# Altium schematic symbol library integrated_circuits_schematic.SchLib: 128 symbols (part 1 of 5)
Pins are listed as number, name and electrical type; pins without a type are passive.

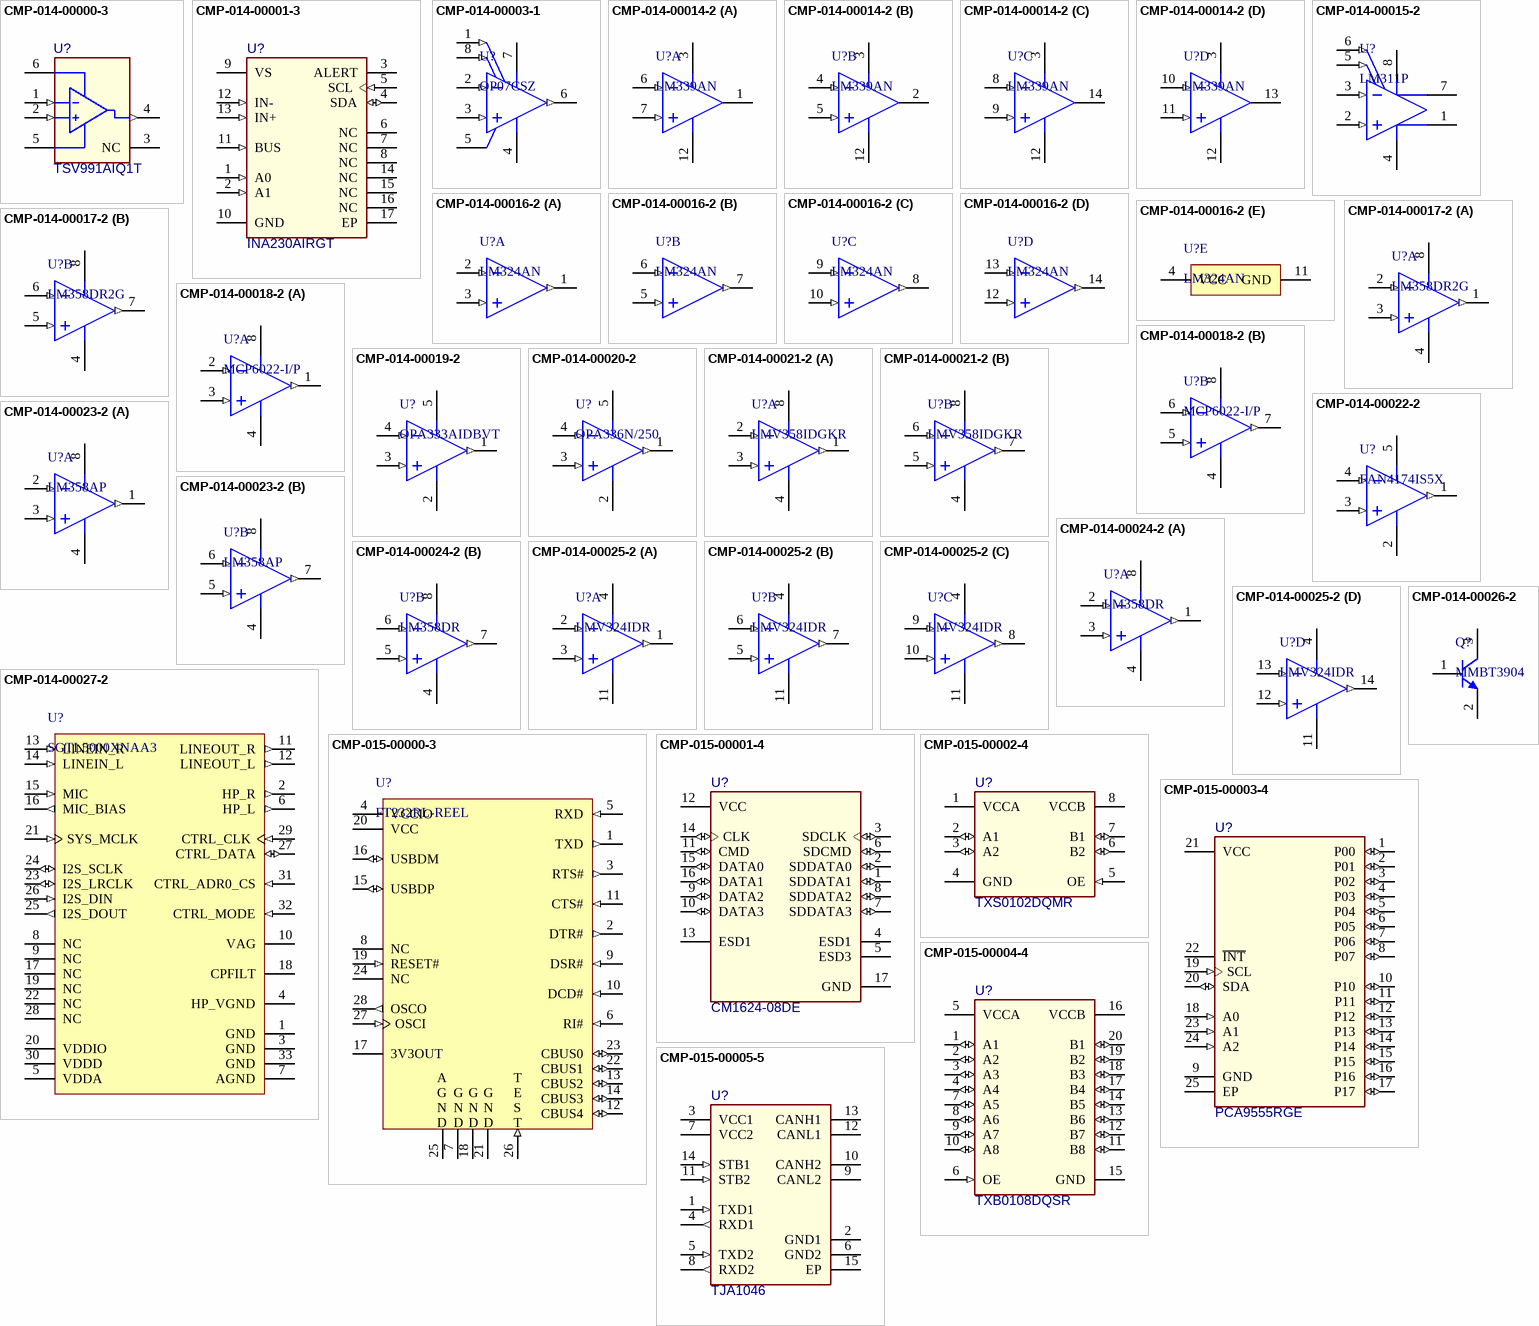
[diagram p0: symbols CMP-014-00000-3 to CMP-015-00005-5]

## CMP-014-00000-3
designator U?, comment TSV991AIQ1T
Rail-to-rail Input / Output GBP Operational Amplifier, 20 MHz, -40 to 125 degC, 6-Pin DFN, RoHS, Tape and Reel; Channels: 2; Min Operating Temperature: -40°C; Pins: 6; Max Operating Temperature: 125°C
footprint STM-DFN-8_V (DFN, 8-Leads, Body 2x2mm, Pitch 0.5mm)
footprint STM-DFN-8_V (DFN, 8-Leads, Body 2x2mm, Pitch 0.5mm)
pins: 1 IN- (in), 2 IN+ (in), 3 NC, 4 OUT (out), 5 VCC- (power), 6 VCC+ (power)

## CMP-014-00001-3
designator U?, comment INA230AIRGT
High or Low Side Measurement, 2.7 to 5.5 V, -40 to 125 degC, 16-Pin QFN, RoHS, Tape and Reel; Mounting Technology: SurfaceMount; Pins: 17
footprint RGT0016C_V (QFN, 16-Leads, Body 3x3mm, Pitch 0.5mm, Thermal Pad 1.65x1.65mm)
footprint RGT0016C_V (QFN, 16-Leads, Body 3x3mm, Pitch 0.5mm, Thermal Pad 1.65x1.65mm)
pins: 1 A0 (in), 2 A1 (in), 3 ALERT (oc), 4 SDA (io), 5 SCL (in), 6 NC, 7 NC, 8 NC, 9 VS (power), 10 GND (power), 11 BUS (in), 12 IN- (in), 13 IN+ (in), 14 NC, 15 NC, 16 NC, 17 EP (power)

## CMP-014-00003-1
designator U?, comment OP07CSZ
Operational Amplifier, 1 Func, 250uV Offset-Max, BIPolar, PDSO8; Nominal Supply Voltage: 15V; Channels: 1; Pins: 8; Case/Package: SOP; RoHS Compliant: Yes; Max Operating Temperature: 85°C; Min Operating Temperature: -40°C
footprint ADI-R-8_N (SOIC, 8-Leads, Body 4.9x3.9mm, Pitch 1.27mm, IPC Medium Density)
footprint ADI-R-8_M (SOIC, 8-Leads, Body 4.9x3.9mm, Pitch 1.27mm, IPC Low Density)
footprint ADI-R-8_L (SOIC, 8-Leads, Body 4.9x3.9mm, Pitch 1.27mm, IPC High Density)
pins: 1 VOS TRIM (in), 2 -IN (in), 3 +IN (in), 4 -V (power), 5 NC, 6 OUT (out), 7 +V (power), 8 VOS TRIM (in)

## CMP-014-00014-2
designator U?, comment LM339AN
Quad Differential Comparator, 2 to 30 V, 0 to 70 degC, 14-Pin DIP (N), Pb-Free (RoHS), Tube; Manufacturer: Texas Instruments (TI); Min Supply Voltage: 2V; Nominal Supply Current: 500uA; Elements: 4; Power: 1.05W; Nominal Voltage Gain: 106.02dB; Max Dual Supply Voltage: 15V; Max Supply Voltage: 30V; Min Dual Supply Voltage: 1V; Datasheet Version: SLCS006S, 08/2012; Pins: 14; Datasheet URL: http://www.ti.com/general/docs/lit/getliterature.tsp?genericPartNumber=LM339A&fileType=pdf; Package Description: 14-Pin Double In-line Package, Body 19.305 x 6.35 mm, Pitch 2.54 mm; Packaging: Rail/Tube; Case/Package: PDIP; Mounting Technology: TH; Package Quantity: 25; Manufacturer URL: http://www.ti.com/; Min Operating Temperature: 0°C; Package Reference: N-14; RoHS Compliant: True; Package URL: http://www.ti.com/lit/ml/mpdi002c/mpdi002c.pdf; Max Operating Temperature: 70°C
footprint TI-N0014A (DIP, 14-Leads, Body 19.7x6.6mm, Pitch 2.54mm)
pins on every part: 3 VCC (power), 12 GND (power)
part A pins: 1 OUT1 (oc), 6 IN1- (in), 7 IN1+ (in)
part B pins: 2 OUT2 (oc), 4 IN2- (in), 5 IN2+ (in)
part C pins: 8 IN3- (in), 9 IN3+ (in), 14 OUT3 (oc)
part D pins: 10 IN4- (in), 11 IN4+ (in), 13 OUT4 (oc)

## CMP-014-00015-2
designator U?, comment LM311P
Quad Differential Comparator, 3.5 to 30 V, 0 to 70 degC, 8-Pin PDIP (P), Pb-Free (RoHS), Tube; Manufacturer: Texas Instruments (TI); Nominal Dual Supply Voltage: 12V; Channels: 1; Nominal Voltage Gain: 106.02dB; Propagation Delay: 115ns; Max Dual Supply Voltage: 15V; Min Dual Supply Voltage: 1.75V; Min Supply Voltage: 3.5V; Max Supply Voltage: 30V; Nominal Supply Current: 7.5mA; Package Version: 4040082/E, 04/2010; Mounting Technology: TH; RoHS Compliant: True; Pins: 8; Datasheet URL: http://www.ti.com/general/docs/lit/getliterature.tsp?genericPartNumber=LM311&fileType=pdf; Packaging: Rail/Tube; Package Quantity: 50; Max Operating Temperature: 70°C; Package Description: 8-Pin Double In-line Package, Body 9.59 x 6.35 mm, Pitch 2.54 mm; Nominal Supply Voltage: 12V; Datasheet Version: SLCS007I, 06/2015; Manufacturer URL: http://www.ti.com/; Package URL: http://www.ti.com/lit/ml/mpdi001b/mpdi001b.pdf; Package Reference: P0008A; Elements: 1; Min Operating Temperature: 0°C; Case/Package: PDIP
footprint P0008A (DIP, 8-Leads, Body 10.15x6.6mm, Pitch 2.54mm)
pins: 1 EMIT OUT, 2 IN+ (in), 3 IN- (in), 4 VCC- (power), 5 BALANCE (in), 6 BAL/STRB (in), 7 COL OUT, 8 VCC+ (power)

## CMP-014-00016-2
designator U?, comment LM324AN
Quadruple Operational Amplifier, 1.2 MHz, 0 to 70 degC, 14-Pin PDIP (N), Pb-Free (RoHS), Tube; Manufacturer: Texas Instruments (TI); Max Dual Supply Voltage: 16V; Nominal Dual Supply Voltage: 12V; Nominal Voltage Gain: 100dB; Min Supply Voltage: 1.5V; Unity Gain Bandwidth Product: 1.2MHz; Output Current: 30mA; Nominal Supply Current: 3mA; RoHS Compliant: True; Package Reference: N-14; Min Operating Temperature: 0°C; Case/Package: DIP; Mounting Technology: TH; Package Description: 14-Pin Double In-line Package, Body 19.305 x 6.35 mm, Pitch 2.54 mm; Nominal Supply Voltage: 12V; Package URL: http://www.ti.com/lit/ml/mpdi002c/mpdi002c.pdf; Package Quantity: 25; Datasheet Version: SLOS066W, 03/2015; Manufacturer URL: http://www.ti.com/; Datasheet URL: http://www.ti.com/lit/ds/symlink/lm324a.pdf; Min Dual Supply Voltage: 1.5V; Max Supply Voltage: 16V; Pins: 14; Max Operating Temperature: 70°C
footprint TI-N0014A (DIP, 14-Leads, Body 19.7x6.6mm, Pitch 2.54mm)
part A pins: 1 1OUT (out) "Output", 2 1IN- (in) "Negative input", 3 1IN+ (in) "Positive input"
part B pins: 5 2IN+ (in) "Positive input", 6 2IN- (in) "Negative input", 7 2OUT (out) "Output"
part C pins: 8 3OUT (out) "Output", 9 3IN- (in) "Negative input", 10 3IN+ (in) "Positive input"
part D pins: 12 4IN+ (in) "Positive input", 13 4IN- (in) "Negative input", 14 4OUT (out) "Output"
part E pins: 4 VCC (power) "Power supply", 11 GND (power) "Ground"

## CMP-014-00017-2
designator U?, comment LM358DR2G
Single Supply Dual Operational Amplifier, 3 to 32 V, 0 to 70 degC, 8-Pin SOIC, Pb-Free, Tape and Reel; Manufacturer: ON Semiconductor; Max Supply Voltage: 44V; Max Input Voltage: 28.3V; Nominal Voltage Gain: 100dB; Slew Rate: 0.07V/us; Common Mode Rejection Ratio: 65dB; Nominal Supply Voltage: 12V; Min Supply Voltage: 2.3V; Channels: 2; Max Dual Supply Voltage: 16V; Nominal Supply Current: 35uA; Output Current: 40mA; Min Dual Supply Voltage: 1.5V; Nominal Gain Bandwith Product: 200KHz; Min Input Voltage: 0uV; Package Reference: SOIC-8-751-07; Package Description: 8-Pin Small Outline Integrated Circuit, Body 4.9 x 3.9 mm, Pitch 1.27 mm; Min Operating Temperature: 0°C; Max Operating Temperature: 70°C; Case/Package: SOIC; Datasheet URL: http://www.onsemi.cn/pub_link/Collateral/LM358-D.PDF; Manufacturer URL: http://www.onsemi.com/; Packaging: TapeandReel; Pins: 8; RoHS Compliant: True; Datasheet Version: Rev. 32, 10/2016; Package Quantity: 2500; Nominal Dual Supply Voltage: 12V; Mounting Technology: SM
footprint ONSC-SOIC-8-751-07_V (SOIC, 8-Leads, Body 4.9x3.9mm, Pitch 1.27mm)
pins on every part: 4 VEE/GND (power), 8 VCC (power)
part A pins: 1 OUTA (out), 2 INA- (in), 3 INA+ (in)
part B pins: 5 INB+ (in), 6 INB- (in), 7 OUTB (out)

## CMP-014-00018-2
designator U?, comment MCP6022-I/P
Rail-to-Rail Input/Output, 10 MHz Op Amp, 7 V/us, 1 mA, 2.5 to 5.5 V, -40 to 85 degC, 8-Pin PDIP (P), RoHS, Tube; Manufacturer: Microchip Technology; Nominal Supply Current: 1mA; Max Ouput Current: 30mA; Min Supply Voltage: 3V; Unity Gain Bandwidth Product: 10MHz; Nominal Voltage Gain: 110dB; Common Mode Rejection Ratio: 70dB; Min Input Voltage: -300mV; Channels: 2; Max Input Voltage: 5.8V; Output Current: 22mA; Max Supply Voltage: 5V; Slew Rate: 7V/us; RoHS Compliant: True; Package Quantity: 60; Max Operating Temperature: 85°C; Case/Package: PDIP; Datasheet URL: http://ww1.microchip.com/downloads/en/DeviceDoc/20001685E.pdf; Mounting Technology: TH; Min Operating Temperature: -40°C; Manufacturer URL: http://www.microchip.com/; Datasheet Version: Rev. E, 01/2017; Packaging: Rail/Tube; Package Description: 8-Pin Double In-line Package, Body 9.46 x 6.35 mm, Pitch 2.54 mm; Package URL: http://www.microchip.com/stellent/groups/techpub_sg/documents/packagingspec/en012702.pdf; Package Reference: P-8; Nominal Gain Bandwith Product: 10MHz; Pins: 8
footprint MCHP-P-8 (DIP, 8-Leads, Body 9.8x6.6mm, Pitch 2.54mm)
pins on every part: 4 VSS (power), 8 VDD (power)
part A pins: 1 VOUTA (out), 2 VINA- (in), 3 VINA+ (in)
part B pins: 5 VINB+ (in), 6 VINB- (in), 7 VOUTB (out)

## CMP-014-00019-2
designator U?, comment OPA333AIDBVT
MicroPower, Zero Drift CMOS Operational Amplifier, 1.8 to 5.5 V, 17 uA, -40 to 125 degC, 5-Pin SOT23 (DBV5), Green (RoHS & no Sb/Br), Tape and Reel; Manufacturer: Texas Instruments (TI); Min Supply Voltage: 900mV; Unity Gain Bandwidth Product: 350KHz; Slew Rate: 0.16V/us; Max Dual Supply Voltage: 2.75V; Nominal Voltage Gain: 130dB; Channels: 1; Common Mode Rejection Ratio: 106dB; Output Current: 5mA; Nominal Supply Current: 25uA; Max I/O Voltage: 10uV; Datasheet URL: http://www.ti.com/general/docs/lit/getliterature.tsp?genericPartNumber=OPA333&fileType=pdf; Manufacturer URL: http://www.ti.com/; Min Dual Supply Voltage: 900mV; Case/Package: SOT-23-5; Packaging: TapeandReel; RoHS Compliant: True; Package URL: http://www.ti.com/lit/ml/mpds018l/mpds018l.pdf; Package Quantity: 250; Mounting Technology: SM; Package Reference: DBV0005A; Nominal Gain Bandwith Product: 350KHz; Max Operating Temperature: 125°C; Pins: 5; Max Supply Voltage: 2.75V; Package Description: 5-Pin Small Outline Transistor, Body 2.9 x 1.6 mm, Pitch 0.95 mm; Datasheet Version: SBOS351E, 12/2015; Min Operating Temperature: -40°C
footprint DBV0005A_L (SOT23, 5-Leads, Body 3.05x1.75mm, Pitch 0.95mm, IPC High Density)
footprint DBV0005A_M (SOT23, 5-Leads, Body 3.05x1.75mm, Pitch 0.95mm, IPC Low Density)
footprint DBV0005A_N (SOT23, 5-Leads, Body 3.05x1.75mm, Pitch 0.95mm, IPC Medium Density)
pins: 1 OUT (out) "Output", 2 V- (power) "Negative (lowest) power supply", 3 +IN (in) "Noninverting input", 4 -IN (in) "Inverting input", 5 V+ (power) "Positive (highest) power supply"

## CMP-014-00020-2
designator U?, comment OPA336N/250
Single-Supply, MicroPower CMOS Operational Amplifier, 2.3 to 5.5 V, -55 to 125 degC, 5-Pin SOT23 (DBV5), Green (RoHS & no Sb/Br), Tape and Reel; Manufacturer: Texas Instruments (TI); Max Supply Voltage: 5V; Unity Gain Bandwidth Product: 100KHz; Slew Rate: 0.03V/us; Nominal Gain Bandwith Product: 11MHz; Common Mode Rejection Ratio: 80dB; Channels: 1; Max I/O Voltage: 125uV; Min Supply Voltage: 3V; Nominal Voltage Gain: 115dB; Nominal Supply Current: 32uA; Package Quantity: 250; Package Reference: DBV0005A; Datasheet URL: http://www.ti.com/general/docs/lit/getliterature.tsp?genericPartNumber=OPA336&fileType=pdf; Package Description: 5-Pin Small Outline Transistor, Body 2.9 x 1.6 mm, Pitch 0.95 mm; Datasheet Version: SBOS068C, 01/2005; Min Operating Temperature: -40°C; Package URL: http://www.ti.com/lit/ml/mpds018l/mpds018l.pdf; RoHS Compliant: True; Case/Package: SOT-23-5; Mounting Technology: SM; Pins: 5; Max Operating Temperature: 85°C; Packaging: TapeandReel; Manufacturer URL: http://www.ti.com/
footprint DBV0005A_L (SOT23, 5-Leads, Body 3.05x1.75mm, Pitch 0.95mm, IPC High Density)
footprint DBV0005A_M (SOT23, 5-Leads, Body 3.05x1.75mm, Pitch 0.95mm, IPC Low Density)
footprint DBV0005A_N (SOT23, 5-Leads, Body 3.05x1.75mm, Pitch 0.95mm, IPC Medium Density)
pins: 1 OUT (out), 2 V- (power), 3 IN+ (in), 4 IN- (in), 5 V+ (power)

## CMP-014-00021-2
designator U?, comment LMV358IDGKR
Low-Voltage Rail-to-Rail Output Operational Amplifier, 2.7 to 5.5 V, -40 to 125 degC, 8-Pin VSSOP (DGK), Green (RoHS & no Sb/Br), Tape and Reel; Manufacturer: Texas Instruments (TI); Max Supply Voltage: 5.5V; Slew Rate: 1V/us; Nominal Voltage Gain: 100dB; Min Supply Voltage: 2.7V; Output Current: 160mA; Channels: 2; Common Mode Rejection Ratio: 50dB; Unity Gain Bandwidth Product: 1MHz; Nominal Supply Current: 440uA; Manufacturer URL: http://www.ti.com/; RoHS Compliant: True; Datasheet URL: http://www.ti.com/lit/ds/symlink/lmv358.pdf; Package URL: http://www.ti.com/litv/pdf/mpds028d; Case/Package: MSOP; Package Reference: DGK0008A; Datasheet Version: SLOS263W, 10/2014; Mounting Technology: SM; Min Operating Temperature: -40°C; Package Quantity: 2500; Package Description: 8-Pin Thin Small Outline Package, Body 3 x 3 mm, Pitch 0.65 mm; Packaging: TapeandReel; Pins: 8; Max Operating Temperature: 85°C; Nominal Gain Bandwith Product: 1MHz
footprint DGK0008A_N (TSOP, 8-Leads, Body 3.1x3.1mm, Pitch 0.65mm, IPC Medium Density)
footprint DGK0008A_M (TSOP, 8-Leads, Body 3.1x3.1mm, Pitch 0.65mm, IPC Low Density)
footprint DGK0008A_L (TSOP, 8-Leads, Body 3.1x3.1mm, Pitch 0.65mm, IPC High Density)
pins on every part: 4 GND (power), 8 VCC+ (power)
part A pins: 1 1OUT (out), 2 1IN- (in), 3 1IN+ (in)
part B pins: 5 2IN+ (in), 6 2IN- (in), 7 2OUT (out)

## CMP-014-00022-2
designator U?, comment FAN4174IS5X
Single, Rail-to-Rail I/O, CMOS Amplifier, 2.3 to 5.25 V, -40 to 125 degC, 5-Pin SOT23, RoHS, Tape and Reel; Manufacturer: Fairchild Semiconductor; Min Supply Voltage: 2.3V; Package Version: Aug-15; Nominal Supply Voltage: 3V; Common Mode Rejection Ratio: 58dB; Channels: 1; Nominal Gain Bandwith Product: 3.7MHz; Nominal Voltage Gain: 102dB; Max Supply Voltage: 5.25V; Slew Rate: 3V/us; Nominal Supply Current: 300uA; Mounting Technology: SM; Max Operating Temperature: 85°C; RoHS Compliant: True; Case/Package: SOT-23-5; Datasheet Version: Rev. 1.0.9, 01/2013; Package URL: https://www.fairchildsemi.com/package-drawings/MA/MA05B.pdf; Packaging: TapeandReel; Datasheet URL: https://www.fairchildsemi.com/datasheets/FA/FAN4174.pdf; Min Operating Temperature: -40°C; Pins: 5; Package Description: 5-Pin Small Outline Transistor, Body 2.9 x 1.6 mm, Pitch 0.95 mm; Package Reference: SOT23-5; Package Quantity: 3000; Manufacturer URL: https://www.fairchildsemi.com/; Unity Gain Bandwidth Product: 3.7MHz
footprint FAIR-SOT23-5_V (SOT23, 5-Leads, Body 3x1.7mm, Pitch 0.95mm)
pins: 1 OUT (out) "Output", 2 -VS (power) "Negative Supply", 3 +IN (in) "Positive Input", 4 -IN (in) "Negative Input", 5 +VS (power) "Positive Supply"

## CMP-014-00023-2
designator U?, comment LM358AP
Dual Operational Amplifier, 3 to 32 V, 0 to 70 degC, 8-Pin PDIP (P), Pb-Free (RoHS), Tube; Manufacturer: Texas Instruments (TI); Channels: 2; Max Dual Supply Voltage: 16V; Min Dual Supply Voltage: 1.5V; Slew Rate: 0.3V/us; Unity Gain Bandwidth Product: 700KHz; Common Mode Rejection Ratio: 65dB; Nominal Supply Voltage: 5V; Package Version: 4040082/E, 04/2010; Output Current: 30mA; Nominal Supply Current: 1.2mA; Nominal Voltage Gain: 100dB; Case/Package: DIP; Max Operating Temperature: 70°C; RoHS Compliant: True; Manufacturer URL: http://www.ti.com/; Pins: 8; Package Description: 8-Pin Double In-line Package, Body 9.59 x 6.35 mm, Pitch 2.54 mm; Datasheet URL: http://www.ti.com/lit/ds/symlink/lm358a.pdf; Max Supply Voltage: 16V; Package Reference: P0008A; Mounting Technology: TH; Min Operating Temperature: 0°C; Package URL: http://www.ti.com/lit/ml/mpdi001b/mpdi001b.pdf; Min Supply Voltage: 1.5V; Package Quantity: 50; Packaging: Rail/Tube; Datasheet Version: SLOS068T, 04/2015; Nominal Gain Bandwith Product: 700KHz
footprint P0008A (DIP, 8-Leads, Body 10.15x6.6mm, Pitch 2.54mm)
pins on every part: 4 GND (power), 8 VCC (power)
part A pins: 1 1OUT (out), 2 1IN- (in), 3 1IN+ (in)
part B pins: 5 2IN+ (in), 6 2IN- (in), 7 2OUT (out)

## CMP-014-00024-2
designator U?, comment LM358DR
Dual Operational Amplifier, 3 to 32 V, 0 to 70 degC, 8-Pin SOIC (D), Green (RoHS & no Sb/Br), Tape and Reel; Manufacturer: Texas Instruments (TI); Channels: 2; Min Supply Voltage: 1.5V; Max Supply Voltage: 16V; Package Version: 4040047-3/M, 06/2011; Common Mode Rejection Ratio: 65dB; Nominal Dual Supply Voltage: 12V; Output Current: 30mA; Slew Rate: 0.3V/us; Unity Gain Bandwidth Product: 700KHz; Nominal Supply Current: 1.2mA; Nominal Voltage Gain: 100dB; Packaging: CutTape; Manufacturer URL: http://www.ti.com/; RoHS Compliant: True; Datasheet Version: SLOS068T, 04/2015; Min Dual Supply Voltage: 1.5V; Max Operating Temperature: 70°C; Package Description: 8-Pin Small Outline Integrated Circuit, Body 4.9 x 3.9 mm, Pitch 1.27 mm; Package Reference: D0008A; Max Dual Supply Voltage: 16V; Nominal Supply Voltage: 12V; Mounting Technology: SM; Datasheet URL: http://www.ti.com/lit/ds/symlink/lm358.pdf; Case/Package: SOIC; Package URL: http://www.ti.com/lit/ml/msoi002j/msoi002j.pdf; Min Operating Temperature: 0°C; Pins: 8; Package Quantity: 1; Nominal Gain Bandwith Product: 700KHz
footprint D0008A_L (SOIC, 8-Leads, Body 5x4mm, Pitch 1.27mm, IPC High Density)
pins on every part: 4 GND (power), 8 VCC (power)
part A pins: 1 1OUT (out), 2 1IN- (in), 3 1IN+ (in)
part B pins: 5 2IN+ (in), 6 2IN- (in), 7 2OUT (out)

## CMP-014-00025-2
designator U?, comment LMV324IDR
Quad Low-Voltage Rail-to-Rail Output Operational Amplifier, 2.7 to 5.5 V, -40 to 125 degC, 14-Pin SOIC (D), Green (RoHS & no Sb/Br), Tape and Reel; Manufacturer: Texas Instruments (TI); Unity Gain Bandwidth Product: 1MHz; Slew Rate: 1V/us; Max Supply Voltage: 5V; Common Mode Rejection Ratio: 50dB; Min Supply Voltage: 3V; Nominal Supply Current: 170uA; Channels: 4; Output Current: 160mA; Nominal Voltage Gain: 100dB; Package Quantity: 2500; Package Description: 14-Pin Small Outline Integrated Circuit, Body 8.65 x 3.9 mm, Pitch 1.27 mm; Packaging: TapeandReel; Max Operating Temperature: 85°C; Nominal Gain Bandwith Product: 1MHz; Package URL: http://www.ti.com/lit/ml/mpds177g/mpds177g.pdf; Min Operating Temperature: -40°C; Package Reference: D0014A; RoHS Compliant: True; Datasheet URL: http://www.ti.com/lit/ds/symlink/lmv324.pdf; Mounting Technology: SM; Datasheet Version: SLOS263W, 10/2014; Manufacturer URL: http://www.ti.com/; Case/Package: SOIC; Pins: 14
footprint D0014A_V (SOIC, 14-Leads, Body 8.75x4mm, Pitch 1.27mm)
pins on every part: 4 VCC+ (power), 11 GND (power)
part A pins: 1 1OUT (out), 2 1IN- (in), 3 1IN+ (in)
part B pins: 5 2IN+ (in), 6 2IN- (in), 7 2OUT (out)
part C pins: 8 3OUT (out), 9 3IN- (in), 10 3IN+ (in)
part D pins: 12 4IN+ (in), 13 4IN- (in), 14 4OUT (out)

## CMP-014-00026-2
designator Q?, comment MMBT3904
NPN General Purpose Amplifier, 40 V, 0.2 A, -55 to 150 degC, 3-Pin SOT23, RoHS, Tape and Reel; Manufacturer: Fairchild Semiconductor; Package Version: Rev. 12, 03/2016; Elements: 1; Power: 625mW; hFE Min: 100; Vce Max: 300mV; Frequency: 300MHz; Pins: 3; Package Description: 3-Pin Small Outline Transistor, Body 2.92 x 1.325 mm, Pitch 0.95 mm; RoHS Compliant: True; Package Quantity: 3000; Manufacturer URL: https://www.fairchildsemi.com/; Packaging: TapeandReel; Min Operating Temperature: -55°C; Max Operating Temperature: 150°C; Mounting Technology: SM; Case/Package: TO-236-3; Package Reference: SOT23-3; Datasheet Version: Rev. 1.1.0, 10/2014; Datasheet URL: https://www.fairchildsemi.com/datasheets/MM/MMBT3904.pdf; Package URL: http://www.fairchildsemi.com/dwg/MA/MA03D.pdf
footprint FAIR-SOT23-3_V (SOT23, 3-Leads, Body 3.12x1.5mm, Pitch 0.95mm)
pins: 1 B, 2 E, 3 C

## CMP-014-00027-2
designator U?, comment SGTL5000XNAA3
Low Power Stereo Codec with Headphone Amp, 1.1 to 2 V, -40 to 85 degC, 32-Pin QFN-EP, RoHS, Tray; Manufacturer: NXP / Freescale; Max Supply Voltage: 3.6V; Channels: 2; Min Supply Voltage: 2V; Pins: 32; Min Operating Temperature: -40°C; Case/Package: QFN; Package Quantity: 2450; Datasheet URL: http://cache.freescale.com/files/analog/doc/data_sheet/SGTL5000.pdf?pspll=1&Parent_nodeId=1227651963351723867067&Parent_pageType=product; RoHS Compliant: True; Datasheet Version: Rev. 6.0, 11/2013; Packaging: Tray; Max Operating Temperature: 85°C
footprint FRES-QFN-EP-32_M (QFN, 32-Leads, Body 5.00x5.00mm, Pitch 0.50mm, Thermal Pad 3.40x3.40mm, IPC Low Density)
footprint FRES-QFN-EP-32_L (QFN, 32-Leads, Body 5.00x5.00mm, Pitch 0.50mm, Thermal Pad 3.40x3.40mm, IPC High Density)
footprint FRES-QFN-EP-32_N (QFN, 32-Leads, Body 5.00x5.00mm, Pitch 0.50mm, Thermal Pad 3.40x3.40mm, IPC Medium Density)
pins: 1 GND (power) "Ground", 2 HP_R (out) "Right headphone output", 3 GND (power) "Ground", 4 HP_VGND (power) "Headphone virtual ground", 5 VDDA (power) "Analog voltage", 6 HP_L (out) "Left headphone output", 7 AGND (power) "Ground", 8 NC "No Connect", 9 NC "No Connect", 10 VAG "DAC VAG filter", 11 LINEOUT_R (out) "Right LINEOUT", 12 LINEOUT_L (out) "Left LINEOUT", 13 LINEIN_R (in) "Right LINEIN", 14 LINEIN_L (in) "Left LINEIN", 15 MIC (in) "Microphone input", 16 MIC_BIAS (out) "Mic bias", 17 NC "No Connect", 18 CPFILT "Charge Pump Filter", 19 NC "No Connect", 20 VDDIO (power) "Digital I/O voltage", 21 SYS_MCLK (in) "System master clock", 22 NC "No Connect", 23 I2S_LRCLK (io) "I2S frame clock", 24 I2S_SCLK (io) "I2S bit clock", 25 I2S_DOUT (out) "I2S data output", 26 I2S_DIN (in) "I2S data input", 27 CTRL_DATA (io) "I2C Mode: Serial Data (SDA); SPI Mode: Serial Data Input (MOSI)", 28 NC "No Connect", 29 CTRL_CLK (in) "I2C Mode: Serial Clock (SCL); SPI Mode: Serial Clock (SCK)", 30 VDDD (power) "Digital voltage", 31 CTRL_ADR0_CS (in) "I2C Mode: I2C Address Select 0; SPI Mode: SPI Chip Select", 32 CTRL_MODE (in) "Mode select for I2C or SPI; When pulled low the control mode is I2C, when pulled high the control mode is SPI", 33 GND (power) "Ground"

## CMP-015-00000-3
designator U?, comment FT232RL-REEL
USB UART IC, -0.5 to 6 V, 24 mA, -40 to 85 degC, 28-Pin SSOP, RoHS, Tape and Reel; Manufacturer: Future Technology Devices International (FTDI); Max Supply Voltage: 5.25V; Nominal Supply Voltage: 5V; Min Supply Voltage: 3.3V; Data Rate: 3Mbps; Channels: 1; Packaging: TapeandReel; Manufacturer URL: http://www.ftdichip.com/; Package Quantity: 2000; RoHS Compliant: True; Interface: UART; Pins: 16; Datasheet Version: Rev. 1.04, 02/2006; Locally Supplier URL: https://www.thegioiic.com/ft232rl-ic-usb-to-serial-uart-28-ssop; Datasheet URL: http://datasheet.octopart.com/FT232RL-FTDI-datasheet-120501.pdf; Case/Package: SSOP; Min Operating Temperature: -40°C; Max Operating Temperature: 85°C; Locally Supplier Name: Thegioiic
footprint FTDI-SSOP-28_M (SOP, 28-Leads, Body 10.5x5.6mm, Pitch 0.65mm, IPC Low Density)
footprint FTDI-SSOP-28_L (SOP, 28-Leads, Body 10.5x5.6mm, Pitch 0.65mm, IPC High Density)
footprint FTDI-SSOP-28_N (SOP, 28-Leads, Body 10.5x5.6mm, Pitch 0.65mm, IPC Medium Density)
pins: 1 TXD (out) "Transmit Asynchronous Data Output", 2 DTR# (out) "Data Terminal Ready Control Output / Handshake signal", 3 RTS# (out) "Request To Send Control Output / Handshake signal", 4 VCCIO (power) "+1.8V to +5.25V supply to the UART Interface and CBUS group pins", 5 RXD (in) "Receive Asynchronous Data Input", 6 RI# (in) "Ring Indicator Control Input. When remote wake up is enabled in the internal EEPROM taking RI# low can be used to resume the PC USB host controller from suspend.", 7 GND (power) "Device ground supply pins", 8 NC "No internal connection", 9 DSR# (in) "Data Set Ready Control Input / Handshake signal", 10 DCD# (in) "Data Carrier Detect Control input", 11 CTS# (in) "Clear to Send Control input / Handshake signal", 12 CBUS4 (io) "Con?gurable CBUS I/O Pin. Function of this pin is con?gured in the device internal EEPROM", 13 CBUS2 (io) "Con?gurable CBUS I/O Pin. Function of this pin is con?gured in the device internal EEPROM", 14 CBUS3 (io) "Con?gurable CBUS I/O Pin. Function of this pin is con?gured in the device internal EEPROM", 15 USBDP (io) "USB Data Signal Plus, incorporating internal series resistor and 1.5k ohm pull up resistor to 3.3V", 16 USBDM (io) "USB Data Signal Minus, incorporating internal series resistor", 17 3V3OUT (power) "3.3V output from integrated L.D.O. regulator", 18 GND (power) "Device ground supply pins", 19 RESET# (in) "Can be used by an external device to reset the FT232R", 20 VCC (power) "3.3V to 5.25V supply to the device core", 21 GND (power) "Device ground supply pins", 22 CBUS1 (io) "Con?gurable CBUS I/O Pin. Function of this pin is con?gured in the device internal EEPROM", 23 CBUS0 (io) "Con?gurable CBUS I/O Pin. Function of this pin is con?gured in the device internal EEPROM", 24 NC "No internal connection", 25 AGND (power) "Device analog ground supply for internal clock multiplier", 26 TEST (in) "Puts the device into I.C. test mode. Must be tied to GND for normal operation", 27 OSCI (in) "Input to 12MHz Oscillator Cell. Optional - Can be left unconnected for normal operation", 28 OSCO (out) "Output from 12MHz Oscillator Cell. Optional - Can be left unconnected for normal operation if internal oscillator is used"
text: A / G / N / D; G / N / D; T / E / S / T

## CMP-015-00001-4
designator U?, comment CM1624-08DE
EMI Filter for T-Flash / MicroSD Interface, -40 to 85 degC, 16-Pin UDFN, Pb-Free, Tape and Reel; ComponentLink3URL: http://www.onsemi.com/pub_link/Collateral/517BE.PDF; ComponentLink1Description: Manufacturer URL; ComponentLink1URL: http://www.onsemi.com/; ComponentLink3Description: Package Specification; RoHS Compliant: Pb-Free; ComponentLink2URL: http://www.onsemi.com/pub_link/Collateral/CM1624-D.PDF; Pins: 17; ComponentLink2Description: Datasheet; Mounting Technology: Surface Mount
footprint ONSC-UDFN-16-517BE-01_V (SON, 16-Leads, Body 3.3x1.35mm, Pitch 0.4mm, Thermal Pad 3x0.5mm)
footprint ONSC-UDFN-16-517BE-01_V (SON, 16-Leads, Body 3.3x1.35mm, Pitch 0.4mm, Thermal Pad 3x0.5mm)
pins: 1 SDDATA1 (io) "Data line #1 input/output with pull-up resistor", 2 SDDATA0 (io) "Data line #0 input/output with pull-up resistor", 3 SDCLK (io) "Clock line Input/Output", 4 ESD1 "Single ESD", 5 ESD3 "Single ESD", 6 SDCMD (io) "Command Line Input/Output", 7 SDDATA3 (io) "Data line #3 input/output with pull-up resistor", 8 SDDATA2 (io) "Data line #2 input/output with pull-up resistor", 9 DATA2 (io) "Data line #2 input/output with pull-up resistor", 10 DATA3 (io) "Data line #3 input/output with pull-up resistor", 11 CMD (io) "Command Line Input/Output", 12 VCC (power) "Power Supply ESD Protection", 13 ESD1 "Single ESD", 14 CLK (io) "Clock line Input/Output", 15 DATA0 (io) "Data line #0 input/output with pull-up resistor", 16 DATA1 (io) "Data line #1 input/output with pull-up resistor", 17 GND (power) "Ground return to shield"

## CMP-015-00002-4
designator U?, comment TXS0102DQMR
IC TRANSLATOR VOLTAGE 8-X2SON; Min Supply Voltage: 1.65V; Max Supply Voltage: 5.5V; Pins: 8; Min Operating Temperature: -40°C; Max Operating Temperature: 85°C
footprint DQM (R-PX2SON-N8)
footprint DQM (R-PX2SON-N8)
pins: 1 VCCA (power), 2 A1 (io), 3 A2 (io), 4 GND (power), 5 OE (in), 6 B2 (io), 7 B1 (io), 8 VCCB (power)

## CMP-015-00003-4
designator U?, comment PCA9555RGE
Remote 16-Bit I2C and SMBus I/O Expander with Interrupt Output and Configuration Registers, 2.3 to 5.5 V, -40 to 85 degC, 24-pin VQFN (RGE), Green (RoHS & no Sb/Br); ComponentLink1URL: http://www.ti.com/general/docs/lit/getliterature.tsp?genericPartNumber=PCA9555&fileType=pdf; ComponentLink2URL: http://www.ti.com/litv/pdf/mpds211a; ComponentLink1Description: Datasheet; Mounting Technology: Surface Mount; ComponentLink2Description: Package Specification; Pins: 25
footprint RGE0024C (QFN, 24-Leads, Body 4x4mm, Pitch 0.5mm, Thermal Pad 2.1x2.1mm)
footprint RGE0024C (QFN, 24-Leads, Body 4x4mm, Pitch 0.5mm, Thermal Pad 2.1x2.1mm)
pins: 1 P00 (io) "P-port input/output. Push-pull design structure.", 2 P01 (io) "P-port input/output. Push-pull design structure.", 3 P02 (io) "P-port input/output. Push-pull design structure.", 4 P03 (io) "P-port input/output. Push-pull design structure.", 5 P04 (io) "P-port input/output. Push-pull design structure.", 6 P05 (io) "P-port input/output. Push-pull design structure.", 7 P06 (io) "P-port input/output. Push-pull design structure.", 8 P07 (io) "P-port input/output. Push-pull design structure.", 9 GND (power) "Ground", 10 P10 (io) "P-port input/output. Push-pull design structure.", 11 P11 (io) "P-port input/output. Push-pull design structure.", 12 P12 (io) "P-port input/output. Push-pull design structure.", 13 P13 (io) "P-port input/output. Push-pull design structure.", 14 P14 (io) "P-port input/output. Push-pull design structure.", 15 P15 (io) "P-port input/output. Push-pull design structure.", 16 P16 (io) "P-port input/output. Push-pull design structure.", 17 P17 (io) "P-port input/output. Push-pull design structure.", 18 A0 (in) "Address input 0. Connect directly to VCC or ground.", 19 SCL (in) "Serial clock bus. Connect to VCC through a pullup resistor.", 20 SDA (io) "Serial data bus. Connect to VCC through a pullup resistor.", 21 VCC (power) "Supply voltage", 22 ~{INT} (oc) "Interrupt output. Connect to VCC through a pullup resistor.", 23 A1 (in) "Address input 1. Connect directly to VCC or ground.", 24 A2 (in) "Address input 2. Connect directly to VCC or ground.", 25 EP "Exposed thermal pad"

## CMP-015-00004-4
designator U?, comment TXB0108DQSR
Bidirectional Voltage-Level Translator with Auto-Direction Sensing and +/-15 KV ESD Protection, 8 Bit, -40 to 85 degC, 20-Pin USON (DQS), Green (RoHS & no Sb/Br), Tape and Reel; Pins: 20
footprint DQS0020A_V (SON, 20-Leads, Body 4x2mm, Pitch 0.4mm)
footprint DQS0020A_V (SON, 20-Leads, Body 4x2mm, Pitch 0.4mm)
pins: 1 A1 (io), 2 A2 (io), 3 A3 (io), 4 A4 (io), 5 VCCA (power), 6 OE (in), 7 A5 (io), 8 A6 (io), 9 A7 (io), 10 A8 (io), 11 B8 (io), 12 B7 (io), 13 B6 (io), 14 B5 (io), 15 GND (power), 16 VCCB (power), 17 B4 (io), 18 B3 (io), 19 B2 (io), 20 B1 (io)

## CMP-015-00005-5
designator U?, comment TJA1046
Dual High-speed CAN Transceiver with Standby Mode, 4.75 to 5.25 V, 14-Pin HVSON, RoHS, Tape and Reel; Pins: 15
footprint NXP-SOT1086-2_L (SON, 14-Leads, Body 4.6x3.1mm, Pitch 0.65mm, Thermal Pad 4.2x1.59mm, IPC High Density)
footprint NXP-SOT1086-2_L (SON, 14-Leads, Body 4.6x3.1mm, Pitch 0.65mm, Thermal Pad 4.2x1.59mm, IPC High Density)
pins: 1 TXD1 (in) "transmit data input 1", 2 GND1 (power) "transceiver ground 1", 3 VCC1 (power) "transceiver supply voltage 1", 4 RXD1 (out) "receive data output 1; reads out data from the bus lines 1", 5 TXD2 (in) "transmit data input 2", 6 GND2 (power) "transceiver ground 2", 7 VCC2 (power) "transceiver supply voltage 2", 8 RXD2 (out) "receive data output 2; reads out data from the bus lines 2", 9 CANL2 "LOW-level CAN-bus line 2", 10 CANH2 "HIGH-level CAN-bus line 2", 11 STB2 (in) "Standby mode control input 2", 12 CANL1 "LOW-level CAN-bus line 1", 13 CANH1 "HIGH-level CAN-bus line 1", 14 STB1 (in) "Standby mode control input 1", 15 EP (power)

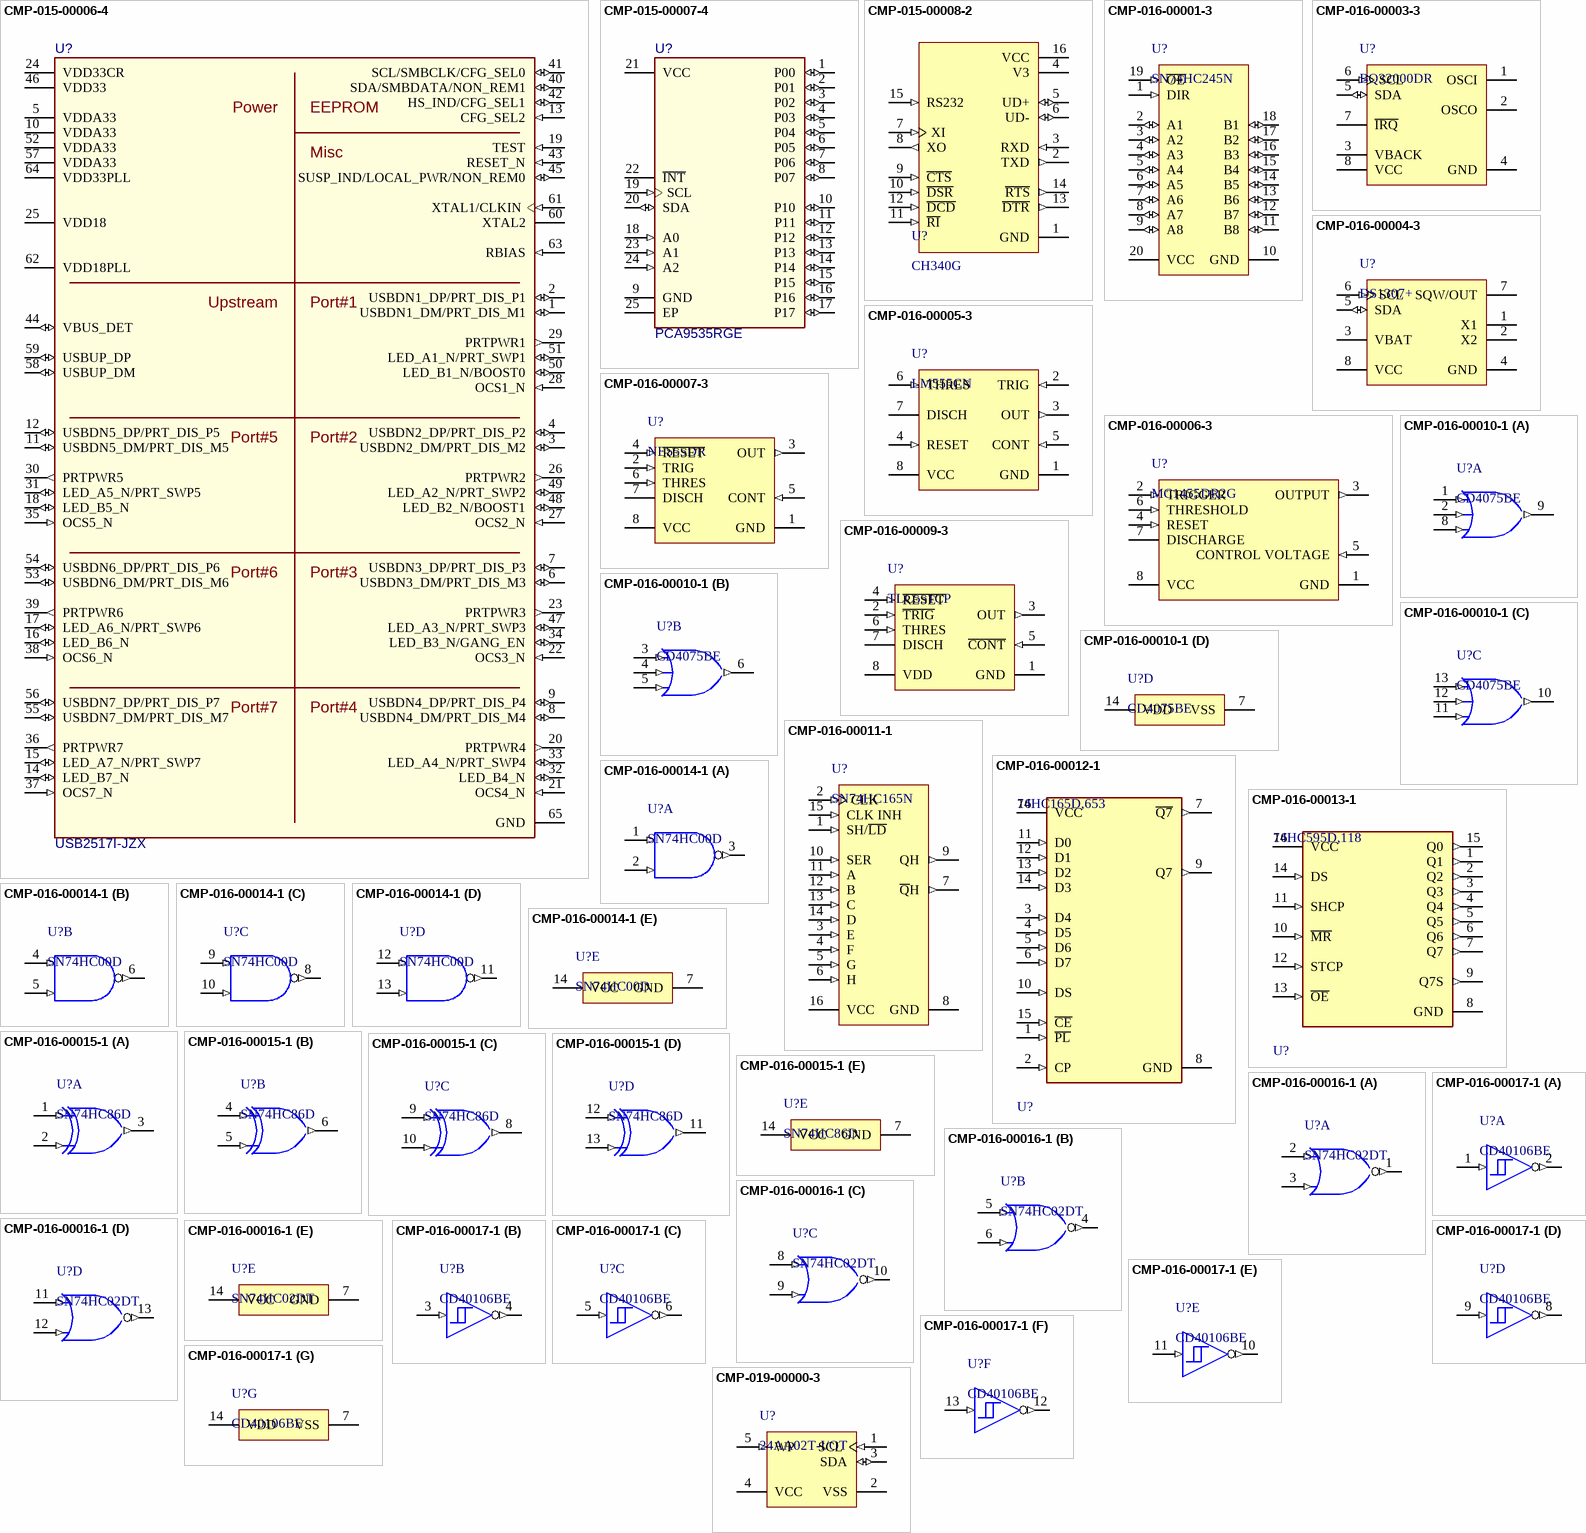
[diagram p1: symbols CMP-015-00006-4 to CMP-019-00000-3]

## CMP-015-00006-4
designator U?, comment USB2517I-JZX
Industrial Temperature Rated USB 2.0 Hi-Speed 7-Port Hub Controller, 3.3 V, -40 to 85 degC, 64-Pin QFN, RoHS, Tube; Case/Package: 64-VFQFNExposedPad; Pins: 65; Mounting Technology: SurfaceMount
footprint MCHP-QFN-64-4700X4700TP (QFN, 64-Leads, Body 9.1x9.1mm, Pitch 0.5mm, Thermal Pad 4.7x4.7mm)
footprint MCHP-QFN-64-4700X4700TP (QFN, 64-Leads, Body 9.1x9.1mm, Pitch 0.5mm, Thermal Pad 4.7x4.7mm)
pins: 1 USBDN1_DM/PRT_DIS_M1 (io), 2 USBDN1_DP/PRT_DIS_P1 (io), 3 USBDN2_DM/PRT_DIS_M2 (io), 4 USBDN2_DP/PRT_DIS_P2 (io), 5 VDDA33 (power) ""VDD Analog I/O.+3.3V Filtered analog PHY power which is shared between", 6 USBDN3_DM/PRT_DIS_M3 (io), 7 USBDN3_DP/PRT_DIS_P3 (io), 8 USBDN4_DM/PRT_DIS_M4 (io), 9 USBDN4_DP/PRT_DIS_P4 (io), 10 VDDA33 (power) ""VDD Analog I/O.+3.3V Filtered analog PHY power which is shared between", 11 USBDN5_DM/PRT_DIS_M5 (io), 12 USBDN5_DP/PRT_DIS_P5 (io), 13 CFG_SEL2 (in) "Configuration Programming Select", 14 LED_B7_N (io) "Enhanced Indicator LED for ports 7", 15 LED_A7_N/PRT_SWP7 (io), 16 LED_B6_N (io) "Enhanced Indicator LED for ports 6", 17 LED_A6_N/PRT_SWP6 (io), 18 LED_B5_N (io) "Enhanced Indicator LED for ports 5", 19 TEST (in) "TEST pin", 20 PRTPWR4 (out) "USB Power Enable", 21 OCS4_N (in) "Over-current Sense", 22 OCS3_N (in) "Over-current Sense", 23 PRTPWR3 (out) "USB Power Enable", 24 VDD33CR (power) ""VDDIO/VDD 3.3 Core Regulator Reference.+3.3V power supply for the Digital I/O. If the internal core", 25 VDD18 (power) ""VDD Core.+1.8V core power. This pin must have a 1.0uF (or greater) +/-20%", 26 PRTPWR2 (out) "USB Power Enable", 27 OCS2_N (in) "Over-current Sense", 28 OCS1_N (in) "Over-current Sense", 29 PRTPWR1 (out) "USB Power Enable", 30 PRTPWR5 (out) "USB Power Enable", 31 LED_A5_N/PRT_SWP5 (io), 32 LED_B4_N (io) "Enhanced Indicator LED for ports 4", 33 LED_A4_N/PRT_SWP4 (io), 34 LED_B3_N/GANG_EN (io), 35 OCS5_N (in) "Over-current Sense", 36 PRTPWR7 (out) "USB Power Enable", 37 OCS7_N (in) "Over-current Sense", 38 OCS6_N (in) "Over-current Sense", 39 PRTPWR6 (out) "USB Power Enable", 40 SDA/SMBDATA/NON_REM1 (io), 41 SCL/SMBCLK/CFG_SEL0 (io), 42 HS_IND/CFG_SEL1 (io), 43 RESET_N (in) "RESET Input", 44 VBUS_DET (io) "Detect Upstream VBUS Power", 45 SUSP_IND/LOCAL_PWR/NON_REM0 (io), 46 VDD33 (power) "VDD I/O.+3.3V Digital I/O power", 47 LED_A3_N/PRT_SWP3 (io), 48 LED_B2_N/BOOST1 (io), 49 LED_A2_N/PRT_SWP2 (io), 50 LED_B1_N/BOOST0 (io), 51 LED_A1_N/PRT_SWP1 (io), 52 VDDA33 (power) ""VDD Analog I/O.+3.3V Filtered analog PHY power which is shared between", 53 USBDN6_DM/PRT_DIS_M6 (io), 54 USBDN6_DP/PRT_DIS_P6 (io), 55 USBDN7_DM/PRT_DIS_M7 (io), 56 USBDN7_DP/PRT_DIS_P7 (io), 57 VDDA33 (power) ""VDD Analog I/O.+3.3V Filtered analog PHY power which is shared between", 58 USBUP_DM (io) "USB Bus Data", 59 USBUP_DP (io) "USB Bus Data", 60 XTAL2 "Crystal Output", 61 XTAL1/CLKIN (in) "Crystal Input/External Clock Input", 62 VDD18PLL (power) ""VDD PLL.+1.8V Filtered analog power for internal PLL. This pin must have", 63 RBIAS (in) "USB Transceiver Bias", 64 VDD33PLL (power) "VDD 3.3 PLL Regulator Reference.+3.3V power supply for the Digital I/O. If the internal PLL 1.8V regulator is enabled, then this pin acts as the regulator input.", 65 GND (power) "Ground"
text: Power; EEPROM; Misc; Upstream; Port#1; Port#5; Port#2; Port#6; Port#3; Port#7; Port#4

## CMP-015-00007-4
designator U?, comment PCA9535RGE
Remote 16-Bit I2C and SMBus I/O Expander with Interrupt Output and Configuration Registers, 2.3 to 5.5 V, -40 to 85 degC, 24-pin VQFN (RGE), Green (RoHS & no Sb/Br); ComponentLink1Description: Datasheet; Mounting Technology: Surface Mount; ComponentLink2Description: Package Specification; ComponentLink2URL: http://www.ti.com/litv/pdf/mpds211a; Pins: 25; ComponentLink1URL: http://www.ti.com/general/docs/lit/getliterature.tsp?genericPartNumber=PCA9535&fileType=pdf
footprint RGE0024C (QFN, 24-Leads, Body 4x4mm, Pitch 0.5mm, Thermal Pad 2.1x2.1mm)
footprint RGE0024C (QFN, 24-Leads, Body 4x4mm, Pitch 0.5mm, Thermal Pad 2.1x2.1mm)
pins: 1 P00 (io) "P-port input/output. Push-pull design structure.", 2 P01 (io) "P-port input/output. Push-pull design structure.", 3 P02 (io) "P-port input/output. Push-pull design structure.", 4 P03 (io) "P-port input/output. Push-pull design structure.", 5 P04 (io) "P-port input/output. Push-pull design structure.", 6 P05 (io) "P-port input/output. Push-pull design structure.", 7 P06 (io) "P-port input/output. Push-pull design structure.", 8 P07 (io) "P-port input/output. Push-pull design structure.", 9 GND (power) "Ground", 10 P10 (io) "P-port input/output. Push-pull design structure.", 11 P11 (io) "P-port input/output. Push-pull design structure.", 12 P12 (io) "P-port input/output. Push-pull design structure.", 13 P13 (io) "P-port input/output. Push-pull design structure.", 14 P14 (io) "P-port input/output. Push-pull design structure.", 15 P15 (io) "P-port input/output. Push-pull design structure.", 16 P16 (io) "P-port input/output. Push-pull design structure.", 17 P17 (io) "P-port input/output. Push-pull design structure.", 18 A0 (in) "Address input 0. Connect directly to VCC or ground.", 19 SCL (in) "Serial clock bus. Connect to VCC through a pullup resistor.", 20 SDA (io) "Serial data bus. Connect to VCC through a pullup resistor.", 21 VCC (power) "Supply voltage", 22 ~{INT} (oc) "Interrupt output. Connect to VCC through a pullup resistor.", 23 A1 (in) "Address input 1. Connect directly to VCC or ground.", 24 A2 (in) "Address input 2. Connect directly to VCC or ground.", 25 EP "Exposed thermal pad"

## CMP-015-00008-2
designator U?, comment CH340G
USB Bridge, USB to UART USB 2.0 UART Interface; Nominal Supply Voltage: 3.3V; Max Supply Voltage: 5V; Mounting Technology: SMT; Locally Supplier URL: https://www.thegioiic.com/ch340g; Pins: 16; Locally Supplier Name: Thegioiic; Case/Package: DSIP-16; Min Supply Voltage: 3.3V
footprint DSIP-16 CH340G
pins: 1 GND (power), 2 TXD (out), 3 RXD (in), 4 V3 (power), 5 UD+ (io), 6 UD- (io), 7 XI (in), 8 XO (out), 9 ~{CTS} (in), 10 ~{DSR} (in), 11 ~{RI} (in), 12 ~{DCD} (in), 13 ~{DTR} (out), 14 ~{RTS} (out), 15 RS232 (in), 16 VCC (power)

## CMP-016-00001-3
designator U?, comment SN74HC245N
Octal Bus Transceiver, 2 to 6 V, -40 to 85 degC, 20-Pin PDIP (N), Pb-Free (RoHS), Tape and Reel; Manufacturer: Texas Instruments; Max Ouput Current: -7.8mA; Output Current: 7.8mA; Min Supply Voltage: 2V; Propagation Delay: 22ns; Elements: 1; Direction: Bidirectional; Channels: 8; Nominal Supply Voltage: 5V; Max Supply Voltage: 6V; Package Description: 20-Pin Double In-line Package, Body 25.4 x 6.35 mm, Pitch 2.54 mm; Mounting Technology: TH; Min Operating Temperature: -40°C; Packaging: Rail/Tube; Case/Package: DIP; Datasheet Version: SCLS131E, 09/2015; Package Quantity: 20; Package URL: http://www.ti.com/lit/ml/mpdi002c/mpdi002c.pdf; Datasheet URL: http://www.ti.com/lit/ds/symlink/sn74hc245.pdf; Max Operating Temperature: 85°C; Manufacturer URL: http://www.ti.com/; Package Reference: N0020A; RoHS Compliant: True; Pins: 20
footprint N0020A (DIP, 20-Leads, Body 26.9x6.6mm, Pitch 2.54mm)
pins: 1 DIR (in) "Direction Pin", 2 A1 (io) "A1 Input/Output", 3 A2 (io) "A2 Input/Output", 4 A3 (io) "A3 Input/Output", 5 A4 (io) "A4 Input/Output", 6 A5 (io) "A5 Input/Output", 7 A6 (io) "A6 Input/Output", 8 A7 (io) "A7 Input/Output", 9 A8 (io) "A8 Input/Output", 10 GND (power) "Ground Pin", 11 B8 (io) "B8 Input/Output", 12 B7 (io) "B7 Input/Output", 13 B6 (io) "B6 Input/Output", 14 B5 (io) "B5 Input/Output", 15 B4 (io) "B4 Input/Output", 16 B3 (io) "B3 Input/Output", 17 B2 (io) "B2 Input/Output", 18 B1 (io) "B1 Input/Output", 19 ~{OE} (in) "Output Enable", 20 VCC (power) "Power Pin"

## CMP-016-00003-3
designator U?, comment BQ32000DR
Real-Time Clock (RTC), 3 to 3.6 V, -40 to 85 degC, 8-Pin SOIC (D), Green (RoHS & no Sb/Br), Tape and Reel; Manufacturer: Texas Instruments; Package Version: 4040047-3/M, 06/2011; Max Supply Voltage: 3.6V; Nominal Supply Voltage: 3.3V; Interface: Serial; Min Supply Voltage: 3V; RoHS Compliant: True; Datasheet Version: SLUS900E, 08/2015; Pins: 8; Mounting Technology: SM; Manufacturer URL: http://www.ti.com/; Package Description: 8-Pin Small Outline Integrated Circuit, Body 4.9 x 3.9 mm, Pitch 1.27 mm; Package Quantity: 2500; Datasheet URL: http://www.ti.com/lit/ds/symlink/bq32000.pdf; Package Reference: D0008A; Package URL: http://www.ti.com/lit/ml/msoi002j/msoi002j.pdf; Case/Package: SOIC; Max Operating Temperature: 85°C; Packaging: TapeandReel; Min Operating Temperature: -40°C
footprint D0008A_N (SOIC, 8-Leads, Body 5x4mm, Pitch 1.27mm, IPC Medium Density)
footprint D0008A_L (SOIC, 8-Leads, Body 5x4mm, Pitch 1.27mm, IPC High Density)
footprint D0008A_M (SOIC, 8-Leads, Body 5x4mm, Pitch 1.27mm, IPC Low Density)
pins: 1 OSCI "Oscillator input", 2 OSCO "Oscillator output", 3 VBACK (power) "Backup device power", 4 GND (power) "Ground", 5 SDA (io) "I2C serial data", 6 SCL (in) "I2C serial interface clock", 7 ~{IRQ} (oc) "Configurable interrupt output. Open-drain output.", 8 VCC (power) "Main device power"

## CMP-016-00004-3
designator U?, comment DS1307+
I2C Real-Time Clock, 5 V, 0 to 70 degC, 8-Pin DIP, RoHS, Tube; Manufacturer: Maxim; Min Supply Voltage: 4.5V; Interface: Serial; Nominal Supply Voltage: 5V; Package Version: Rev. E, 04/2011; Max Supply Voltage: 5.5V; RoHS Compliant: True; Manufacturer URL: http://www.maximintegrated.com/; Datasheet Version: Rev. 100208, 10/2008; Datasheet URL: https://datasheet.ciiva.com/20167/82-0567-20167410.pdf; Mounting Technology: TH; Package Quantity: 50; Packaging: Rail/Tube; Package Description: 8-Pin Plastic Dual-In-Line, Narrow (0.3in) (P8-1), Body 9.375 x 6.985 mm, Pitch 2.54 mm; Case/Package: DIP; Min Operating Temperature: 0°C; Package URL: http://pdfserv.maximintegrated.com/package_dwgs/21-0043.PDF; Pins: 8; Max Operating Temperature: 70°C; Package Reference: P8-1
footprint MAXM-P8-1 (DIP, 8-Leads, Body 9.375x6.985mm, Pitch 2.54mm)
pins: 1 X1 "Connections for Standard 32.768kHz Quartz Crystal.", 2 X2 "Connections for Standard 32.768kHz Quartz Crystal.", 3 VBAT (power) "Backup Supply Input for Any Standard 3V Lithium Cell or Other Energy Source.", 4 GND (power) "Ground", 5 SDA (io) "Serial Data Input/Output.", 6 SCL (in) "Serial Clock Input.", 7 SQW/OUT (oc) "Square Wave/Output Driver.", 8 VCC (power) "Primary Power Supply."

## CMP-016-00005-3
designator U?, comment LM555CN
Single Timer, 4.5 to 16 V, 0 to 70 degC, 8-Pin MDIP, RoHS, Rail; Manufacturer: Fairchild Semiconductor; Max Ouput Current: -200mA; Channels: 1; Max Supply Voltage: 16V; Nominal Supply Voltage: 5V; Nominal Supply Current: 7.5mA; Min Supply Voltage: 4.5V; Power: 600mW; Datasheet Version: Rev. 1.1.0, 01/2013; Case/Package: DIP; Max Operating Temperature: 70°C; RoHS Compliant: True; Min Operating Temperature: 0°C; Manufacturer URL: https://www.fairchildsemi.com/; Package Reference: MDIP 8L; Datasheet URL: https://www.fairchildsemi.com/datasheets/LM/LM555.pdf; Pins: 8; Package URL: https://www.fairchildsemi.com/package-drawings/N0/N08E.pdf; Package Description: 8-Pin Dual Inline Package, Body 9.815 x 6.35 mm, Pitch 2.54 mm; Package Quantity: 50; Packaging: Rail/Tube; Mounting Technology: TH
footprint FAIR-MDIP 8L (DIP, 8-Leads, Body 9.4x6.6mm, Pitch 2.54mm)
pins: 1 GND (power), 2 TRIG (in), 3 OUT (out), 4 RESET (in), 5 CONT (in), 6 THRES (in), 7 DISCH (oc), 8 VCC (power)

## CMP-016-00006-3
designator U?, comment MC1455DR2G
Timer, 4.5 to 16 V, 625 mW, 0 to 70 degC, 8-Pin SOIC (751-07), Pb-Free, Tape and Reel; Manufacturer: ON Semiconductor; Max Supply Voltage: 16V; Nominal Supply Current: 10mA; Max Ouput Current: 200mA; Min Supply Voltage: 4.5V; Power: 625mW; Packaging: TapeandReel; Min Operating Temperature: 0°C; RoHS Compliant: True; Pins: 8; Datasheet Version: Rev. 10, 12/2009; Package Quantity: 2500; Datasheet URL: http://www.onsemi.cn/pub_link/Collateral/MC1455-D.PDF; Package URL: http://www.onsemi.com/pub_link/Collateral/NB2304A-D.PDF; Manufacturer URL: http://www.onsemi.com/; Package Reference: SOIC-8-751-07_AJ; Case/Package: SOIC; Package Description: 8-Pin Small Outline Integrated Circuit, Body 4.9 x 3.9 mm, Pitch 1.27 mm; Max Operating Temperature: 70°C; Mounting Technology: SM
footprint ONSC-SOIC-8-751-07_AJ_V (SOIC, 8-Leads, Body 5x4mm, Pitch 1.27mm)
pins: 1 GND (power), 2 TRIGGER (in), 3 OUTPUT (out), 4 RESET (in), 5 CONTROL VOLTAGE (in), 6 THRESHOLD (in), 7 DISCHARGE, 8 VCC (power)

## CMP-016-00007-3
designator U?, comment NE555DR
Precision Timer, 4.5 to 16 V, 0 to 70 degC, 8-Pin SOIC (D), Green (RoHS & no Sb/Br), Tape and Reel; Manufacturer: Texas Instruments; Max Ouput Current: -200mA; Frequency: 100kHz; Max Supply Voltage: 16V; Min Supply Voltage: 4.5V; Package Version: 4040047-3/M, 06/2011; Datasheet Version: SLFS022I, 09/2014; Datasheet URL: http://www.ti.com/general/docs/lit/getliterature.tsp?genericPartNumber=NE555&fileType=pdf; Package Reference: D0008A; Min Operating Temperature: 0°C; Case/Package: SOIC; Pins: 8; RoHS Compliant: True; Packaging: TapeandReel; Package Quantity: 2500; Package URL: http://www.ti.com/lit/ml/msoi002j/msoi002j.pdf; Package Description: 8-Pin Small Outline Integrated Circuit, Body 4.9 x 3.9 mm, Pitch 1.27 mm; Mounting Technology: SM; Max Operating Temperature: 70°C; Manufacturer URL: http://www.ti.com/
footprint D0008A_N (SOIC, 8-Leads, Body 5x4mm, Pitch 1.27mm, IPC Medium Density)
footprint D0008A_L (SOIC, 8-Leads, Body 5x4mm, Pitch 1.27mm, IPC High Density)
footprint D0008A_M (SOIC, 8-Leads, Body 5x4mm, Pitch 1.27mm, IPC Low Density)
pins: 1 GND (power), 2 TRIG (in), 3 OUT (out), 4 ~{RESET} (in), 5 CONT (in), 6 THRES (in), 7 DISCH (oc), 8 VCC (power)

## CMP-016-00009-3
designator U?, comment TLC551CP
LinCMOS(TM) Timer, 1.8 MHz, 1 to 15 V, 0 to 70 degC, 8-Pin PDIP (P), Green (RoHS & no Sb/Br), Tube; Manufacturer: Texas Instruments; Nominal Supply Current: 170µA; Package Version: 4040082/E, 04/2010; Max Ouput Current: -10mA; Min Supply Voltage: 1V; Channels: 1; Frequency: 1.8MHz; Max Supply Voltage: 15V; Power: 1W; Pins: 8; RoHS Compliant: True; Packaging: Rail/Tube; Package Reference: P0008A; Datasheet Version: SLFS044B, 09/1997; Package Quantity: 50; Package URL: http://www.ti.com/lit/ml/mpdi001b/mpdi001b.pdf; Case/Package: DIP; Mounting Technology: TH; Max Operating Temperature: 70°C; Package Description: 8-Pin Double In-line Package, Body 9.59 x 6.35 mm, Pitch 2.54 mm; Manufacturer URL: http://www.ti.com/; Datasheet URL: http://www.ti.com/lit/ds/symlink/tlc551.pdf; Min Operating Temperature: 0°C
footprint P0008A (DIP, 8-Leads, Body 10.15x6.6mm, Pitch 2.54mm)
pins: 1 GND (power), 2 ~{TRIG} (in), 3 OUT (out), 4 ~{RESET} (in), 5 ~{CONT} (in), 6 THRES (in), 7 DISCH, 8 VDD (power)

## CMP-016-00010-1
designator U?, comment CD4075BE
OR Gate, 4000/14000/40000 Series, 3-Func, 3-Input, CMOS, PDIP14; Logic Type: OR GATE; Max Supply Voltage: 18V; Nominal Supply Voltage: 5V; Min Supply Voltage: 3V; RoHS Compliant: Yes; Max Operating Temperature: 125°C; Case/Package: DIP; Pins: 14; Min Operating Temperature: -55°C
footprint N0014A (DIP, 14-Leads, Body 19.7x6.6mm, Pitch 2.54mm)
part A pins: 1 A (in), 2 B (in), 8 C (in), 9 J (out)
part B pins: 3 D (in), 4 E (in), 5 F (in), 6 K (out)
part C pins: 10 L (out), 11 I (in), 12 H (in), 13 G (in)
part D pins: 7 VSS (power), 14 VDD (power)

## CMP-016-00011-1
designator U?, comment SN74HC165N
Parallel In Serial Out, HC/UH Series, 8-Bit, Right Direction, Complementary Output, CMOS, PDIP16; Min Supply Voltage: 2V; Nominal Supply Voltage: 5V; Max Supply Voltage: 6V; Pins: 16; Case/Package: DIP; RoHS Compliant: Yes; Max Operating Temperature: 125°C; Logic Type: PARALLEL IN SERIAL OUT; Min Operating Temperature: -40°C
footprint N0016A (DIP, 16-Leads, Body 19.7x6.6mm, Pitch 2.54mm)
pins: 1 SH/~{LD} (in), 2 CLK (in), 3 E (in), 4 F (in), 5 G (in), 6 H (in), 7 ~{Q}H (out), 8 GND (power), 9 QH (out), 10 SER (in), 11 A (in), 12 B (in), 13 C (in), 14 D (in), 15 CLK INH (in), 16 VCC (power)

## CMP-016-00012-1
designator U?, comment 74HC165D,653
Parallel In Serial Out, HC/UH Series, 8-Bit, Right Direction, Complementary Output, CMOS, PDSO16; Nominal Supply Voltage: 5V; Min Supply Voltage: 2V; Max Supply Voltage: 6V; Logic Type: PARALLEL IN SERIAL OUT; Max Operating Temperature: 125°C; Case/Package: SOP; Pins: 16; RoHS Compliant: Yes; Min Operating Temperature: -40°C
footprint FP-SOT109-1-IPC_A
footprint FP-SOT109-1-MFG
footprint FP-SOT109-1-IPC_B
footprint FP-SOT109-1-IPC_C
pins: 1 ~{PL} (in), 2 CP (in), 3 D4 (in), 4 D5 (in), 5 D6 (in), 6 D7 (in), 7 ~{Q7} (out), 8 GND (power), 9 Q7 (out), 10 DS (in), 11 D0 (in), 12 D1 (in), 13 D2 (in), 14 D3 (in), 15 ~{CE} (in), 16 VCC (power)

## CMP-016-00013-1
designator U?, comment 74HC595D,118
Serial In Parallel Out, HC/UH Series, 8-Bit, Right Direction, True Output, CMOS, PDSO16; Min Supply Voltage: 2V; Nominal Supply Voltage: 5V; Max Supply Voltage: 6V; Min Operating Temperature: -40°C; Max Operating Temperature: 125°C; Case/Package: SOP; Pins: 16; Logic Type: SERIAL IN PARALLEL OUT; RoHS Compliant: Yes
footprint FP-SOT109-1-MFG
footprint FP-SOT109-1-IPC_A
footprint FP-SOT109-1-IPC_C
footprint FP-SOT109-1-IPC_B
pins: 1 Q1 (out), 2 Q2 (out), 3 Q3 (out), 4 Q4 (out), 5 Q5 (out), 6 Q6 (out), 7 Q7 (out), 8 GND (power), 9 Q7S (out), 10 ~{MR} (in), 11 SHCP (in), 12 STCP (in), 13 ~{OE} (in), 14 DS (in), 15 Q0 (out), 16 VCC (power)

## CMP-016-00014-1
designator U?, comment SN74HC00D
NAND Gate, HC Series, 4-Func, 2-Input, CMOS, PDSO14; Nominal Supply Voltage: 5V; Min Supply Voltage: 2V; Max Supply Voltage: 6V; Logic Type: NAND GATE; RoHS Compliant: Yes; Max Operating Temperature: 85°C; Min Operating Temperature: -40°C; Pins: 14; Case/Package: SOP
footprint D0014A_M-4 (SOIC, 14-Leads, Body 8.75x4mm, Pitch 1.27mm, IPC Low Density)
footprint D0014A_L-6 (SOIC, 14-Leads, Body 8.75x4mm, Pitch 1.27mm, IPC High Density)
footprint D0014A_N-5 (SOIC, 14-Leads, Body 8.75x4mm, Pitch 1.27mm, IPC Medium Density)
part A pins: 1 1A (in) "Gate 1 input", 2 1B (in) "Gate 1 input", 3 1Y (out) "Gate 1 output"
part B pins: 4 2A (in) "Gate 2 input", 5 2B (in) "Gate 2 input", 6 2Y (out) "Gate 2 output"
part C pins: 8 3Y (out) "Gate 3 output", 9 3A (in) "Gate 3 input", 10 3B (in) "Gate 3 input"
part D pins: 11 4Y (out) "Gate 4 output", 12 4A (in) "Gate 4 input", 13 4B (in) "Gate 4 input"
part E pins: 7 GND (power) "Ground Pin", 14 VCC (power) "Power Pin"

## CMP-016-00015-1
designator U?, comment SN74HC86D
XOR Gate, HC/UH Series, 4-Func, 2-Input, CMOS, PDSO14; Nominal Supply Voltage: 5V; Min Supply Voltage: 2V; Max Supply Voltage: 6V; Min Operating Temperature: -40°C; Max Operating Temperature: 85°C; RoHS Compliant: Yes; Case/Package: SOP; Pins: 14; Logic Type: XOR GATE
footprint D0014A_L (SOIC, 14-Leads, Body 8.75x4mm, Pitch 1.27mm, IPC High Density)
footprint D0014A_M (SOIC, 14-Leads, Body 8.75x4mm, Pitch 1.27mm, IPC Low Density)
footprint D0014A_N (SOIC, 14-Leads, Body 8.75x4mm, Pitch 1.27mm, IPC Medium Density)
part A pins: 1 1A (in), 2 1B (in), 3 1Y (out)
part B pins: 4 2A (in), 5 2B (in), 6 2Y (out)
part C pins: 8 3Y (out), 9 3A (in), 10 3B (in)
part D pins: 11 4Y (out), 12 4A (in), 13 4B (in)
part E pins: 7 GND (power), 14 VCC (power)